# Altium footprint library yusend_power.PCBLIB: 87 footprints (part 2 of 6)
Each footprint in its own frame and in the unit in brackets; x right, y up, seen from the top. Pads: shape width x height; smd on the part's side, far side on the other; paste and mask are expansions set on the pad; w line width, h text height; cw(c..) or ccw(c..) is an arc to the next point about the centre after c.
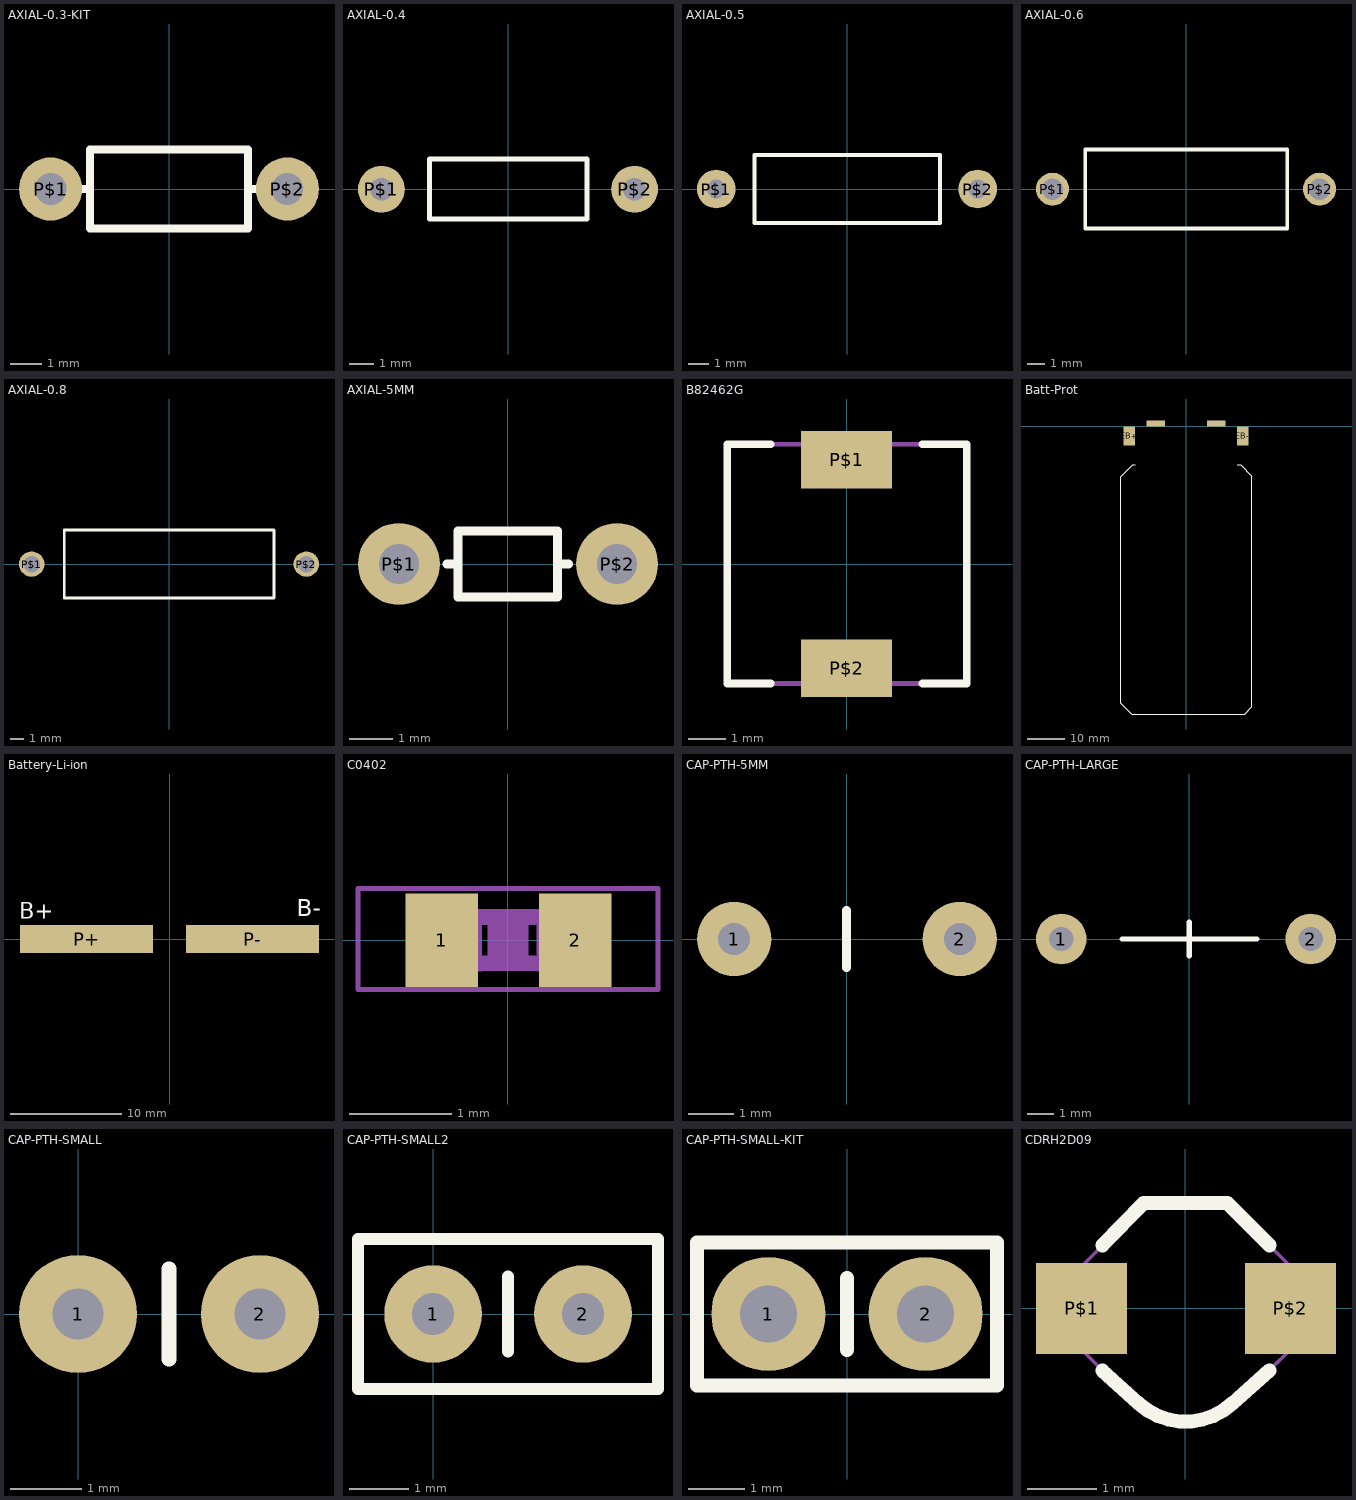
[diagram p1: the footprints below, top view; thin cyan lines are the x and y axes]

## AXIAL-0.3-KIT [mil]
pads (2):
  round 80 hole 40: P$1(-150,0) P$2(150,0)
Top Overlay:
  lines w10: -110,0 -100,0 ; 110,0 100,0 ; -100,0 -100,-50 100,-50 100,0 ; -100,0 -100,50 100,50 100,0
Top Solder:
  region: 151.01,-17.42 150.35,-17.55 143.57,-16.21 137.83,-12.37 134,-6.63 132.78,-0.51 132.69,-0.5 132.64,-0.25 134.06,6.87 138.09,12.91 144.13,16.94 151,18.31 151.01,18.24 157.3,16.99 163.11,13.11 166.99,7.3 168.35,0.45 168.24,-0.11 168.32,-0.1 168.33,-0.15 167.01,-6.8 163.24,-12.44 157.6,-16.21 151,-17.52
  region: -149.99,-17.76 -150.4,-17.84 -157.07,-16.51 -162.73,-12.73 -166.51,-7.07 -167.76,-0.81 -167.74,-0.81 -167.87,-0.15 -166.46,6.94 -162.44,12.94 -156.44,16.96 -150.01,18.24 -149.99,18.26 -143.51,16.97 -137.59,13.01 -133.63,7.09 -132.24,0.1 -132.35,-0.4 -132.29,-0.4 -133.6,-6.98 -137.41,-12.69 -143.12,-16.5 -149.85,-17.84 -150,-17.81
Bottom Solder:
  region: 151,-37.44 150.3,-37.53 140.56,-36.25 131.49,-32.49 123.69,-26.51 117.71,-18.71 113.95,-9.64 112.76,-0.6 112.71,-0.6 112.67,-0.3 113.98,9.7 117.84,19.02 123.98,27.02 131.98,33.16 141.3,37.02 151,38.29 151,38.22 160.03,37.04 169.24,33.22 177.15,27.15 183.22,19.24 187.04,10.03 188.34,0.15 188.22,-0.71 188.29,-0.7 187.06,-10.05 183.35,-18.99 177.46,-26.66 169.79,-32.55 160.85,-36.26 151.26,-37.52 151,-37.48
  region: -149.9,-37.76 -150.4,-37.82 -160.08,-36.55 -169.11,-32.81 -176.86,-26.86 -182.81,-19.11 -186.54,-10.09 -187.75,-0.9 -187.74,-0.9 -187.83,-0.19 -186.52,9.78 -182.67,19.07 -176.55,27.05 -168.57,33.17 -159.28,37.02 -150,38.24 -150,38.23 -140.82,37.02 -131.53,33.17 -123.55,27.05 -117.42,19.07 -113.57,9.77 -112.26,-0.2 -112.37,-1 -112.33,-1 -113.55,-10.24 -117.26,-19.21 -123.18,-26.92 -130.89,-32.83 -139.86,-36.55 -149.49,-37.82

## AXIAL-0.4 [mil]
pads (2):
  round 74 hole 36: P$1(-200,0) P$2(200,0)
Top Overlay:
  lines w8: -124.02,-47.24 -124.02,48 125,48 125,-47.24 -124.02,-47.24

## AXIAL-0.5 [mil]
pads (2):
  round 74 hole 36: P$1(-250,0) P$2(250,0)
Top Overlay:
  lines w8: -177.17,-64.96 -177.17,65 178,65 178,-64.96 -177.17,-64.96

## AXIAL-0.6 [mil]
pads (2):
  round 74 hole 48: P$1(-300,0) P$2(300,0)
Top Overlay:
  lines w8: -226.38,-88.58 -226.38,89 227,89 227,-88.58 -226.38,-88.58

## AXIAL-0.8 [mil]
pads (2):
  round 74 hole 48: P$1(-400,0) P$2(400,0)
Top Overlay:
  lines w8: -305.12,-98.43 -305.12,99 306,99 306,-98.43 -305.12,-98.43

## AXIAL-5MM [mil]
pads (2):
  round 74 hole 36: P$1(-98.43,0) P$2(99,0)
Top Overlay:
  lines w8: -54.88,0 -44.88,0 ; 55,0 45,0 ; -44.88,0 -44.88,30 45,30 45,0 ; -44.88,0 -44.88,-30 45,-30 45,0

## B82462G [mil]
pads (2):
  rect 95x60 smd: P$1(0,109) P$2(0,-108.27)
Top Overlay:
  lines w8: -78.74,-124.02 -124.02,-124.02 -124.02,125 -78.74,125 ; 79,-124.02 125,-124.02 125,125 79,125
Mechanical 16:
  lines w5: -124.02,-124.02 125,-124.02 125,125 -124.02,125 -124.02,-124.02

## Batt-Prot [mm]
pads (4):
  rect 3x5 smd: EB+(-15,-2.5) EB-(15,-2.5)
  rect 5x1.5 smd: EB+(-8,0.8) EB-(8,0.8)
Top Overlay:
  lines w0.254: -13.4,-10.15 -14.075,-10.15 -17.3,-13.375 -17.3,-73.25 -14.4,-76.15 15.575,-76.15 17.45,-74.275 17.45,-13.15 14.45,-10.15 13.6,-10.15
3D body: height 8.97, standoff 1.57, extent -17.435,-76.52 17.535,-0.1

## Battery-Li-ion [mm]
pads (2):
  rect 12x2.5 smd: P+(-7.5,0) P-(7.5,0)
Top Overlay:
  text "B-" at 11.5,2.05 h1.52
  text "B+" at -13.6,1.825 h1.5

## C0402 [mil]
pads (2):
  rect 28x36 smd: 1(-25.59,0) 2(26,0)
Mechanical 6:
  rectangle: -7.87,-11.81 8,12
Mechanical 16:
  rectangle: -21.81,-12 -10,12
  rectangle: 11,-12 22,12
  lines w6: -9.65,-8.82 10,-8.82 ; -9.65,9 10,9
Mechanical 27:
  lines w2: -57.99,-19.02 58,-19.02 58,20 -57.99,20 -57.99,-19.02

## CAP-PTH-5MM [mil]
pads (2):
  round 65 hole 28: 1(-98.43,0) 2(99,0)
Top Overlay:
  lines w8: 0,-25 0,25

## CAP-PTH-LARGE [mil]
pads (2):
  round 75 hole 36: 1(-190,0) 2(180,0)
Top Overlay:
  lines w8: -100,0 0,0 ; 0,-25 0,0 ; 0,25 0,0 ; 100,0 0,0

## CAP-PTH-SMALL [mil]
pads (2):
  round 65 hole 28: 1(0,0) 2(100,0)
Top Overlay:
  lines w8: 50,-25 50,25

## CAP-PTH-SMALL2 [mil]
pads (2):
  round 65 hole 28: 1(0,0) 2(100,0)
Top Overlay:
  lines w8: 50,-25 50,25 ; -50,-50 150,-50 150,50 -50,50 -50,-50

## CAP-PTH-SMALL-KIT [mil]
pads (2):
  round 80 hole 40: 1(-55,0) 2(55,0)
Top Overlay:
  lines w10: 0,-25 0,25 ; -105,-50 105,-50 105,50 -105,50 -105,-50
Top Solder:
  region: -55.29,-17.56 -55.7,-17.64 -62.37,-16.32 -68.03,-12.54 -71.81,-6.88 -73.06,-0.61 -73.05,-0.61 -73.16,-0.05 -71.76,7 -67.77,12.97 -61.79,16.96 -55.31,18.25 -55.29,18.27 -48.75,16.97 -42.87,13.04 -38.93,7.15 -37.55,0.2 -37.63,-0.21 -37.59,-0.2 -38.9,-6.79 -42.71,-12.49 -48.42,-16.3 -55.15,-17.64 -55.3,-17.61
  region: 55,-17.6 54.85,-17.63 48.27,-16.33 42.7,-12.6 38.98,-7.03 37.7,-0.61 37.79,-0.61 37.63,0.2 39.02,7.15 42.95,13.05 48.85,16.98 54.99,18.21 55,18.33 61.96,16.95 67.95,12.95 71.95,6.96 73.35,-0.1 73.33,-0.2 73.26,-0.21 71.99,-6.6 68.11,-12.41 62.3,-16.29 55.45,-17.65 54.99,-17.56
Bottom Solder:
  region: -55.2,-37.56 -55.7,-37.63 -65.38,-36.35 -74.41,-32.61 -82.16,-26.67 -88.11,-18.92 -91.84,-9.89 -93.05,-0.7 -93.13,-0.09 -91.82,9.85 -87.98,19.12 -81.87,27.08 -73.91,33.19 -64.65,37.02 -55.3,38.25 -55.29,38.24 -46.05,37.03 -36.78,33.19 -28.82,27.08 -22.71,19.12 -18.87,9.85 -17.56,-0.1 -17.66,-0.81 -17.63,-0.81 -18.85,-10.04 -22.56,-19.02 -28.48,-26.72 -36.18,-32.64 -45.16,-36.36 -54.79,-37.62
  region: 55,-37.59 54.8,-37.62 45.19,-36.36 36.24,-32.65 28.55,-26.75 22.65,-19.06 18.95,-10.11 17.71,-0.7 17.78,-0.71 17.66,0.15 18.96,10.04 22.78,19.24 28.85,27.15 36.76,33.22 45.96,37.04 54.99,38.22 55,38.28 64.62,37.01 73.97,33.14 81.99,26.99 88.14,18.97 92.01,9.62 93.33,-0.4 93.28,-0.81 93.23,-0.81 92.05,-9.79 88.3,-18.85 82.32,-26.63 74.54,-32.6 65.48,-36.35 55.76,-37.63 55,-37.53

## CDRH2D09 [mil]
pads (2):
  rect 52x52 smd: P$1(-59.06,0) P$2(60,0)
Top Overlay:
  lines w8: -47.24,-35.43 -26.7,-54.09 ccw(c0.15,-25) 27,-54.09 48,-35.43 ; -47.24,36 -23.62,60 24,60 48,36
Mechanical 16:
  lines w2: -59.06,-23.62 -27.84,-54.84 ccw(c0.08,-26.92) 28,-54.84 60,-23.62 60,24 24,60 -23.62,60 -59.06,24 -59.06,-23.62